# EAGLE library part MOLEX-HEADER-SMD-1MM-90°-1X6 (library hsk_2012)
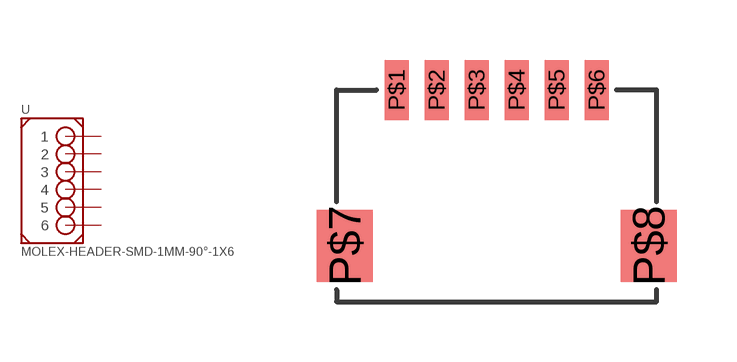
[diagram p16: symbol with the pads of MOLEX-HEADER-SMD-1MM-90°-1X6; footprint MOLEX-HEADER-SMD-1MM-90°-1X6]

Designator prefix -

## MOLEX-HEADER-SMD-1MM-90°-1X6  [MOLEX-HEADER-SMD-1MM-90°-1X6]
P$1  1
P$2  2
P$3  3
P$4  4
P$5  5
P$6  6

## Footprint MOLEX-HEADER-SMD-1MM-90°-1X6 (pad centres in mm)
smd 0.6 x 1.5: P$1 -2.5,4.8; P$2 -1.5,4.8; P$3 -0.5,4.8; P$4 0.5,4.8; P$5 1.5,4.8; P$6 2.5,4.8
smd 1.4 x 1.8: P$7 -3.8,0.9; P$8 3.8,0.9